# EAGLE library part SAMACSYS_PARTS_39700-0205 (library pcb2)
Fixed Terminal Blocks SPRING TERMINAL BLOCK 5C-VERT GREEN Source: Datasheet <https://componentsearchengine.com//39700-0205.pdf>
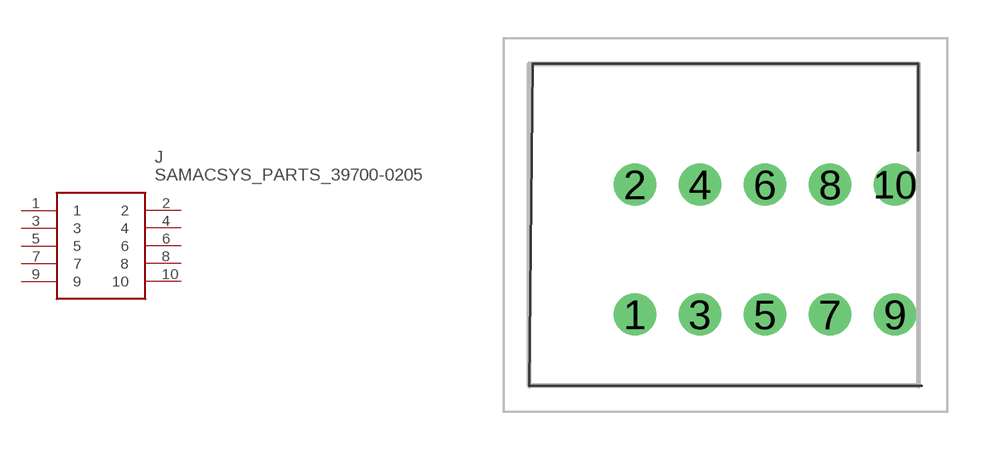
[diagram p0: symbol with the pads of SAMACSYS_PARTS_397000205; footprint SAMACSYS_PARTS_397000205]

Designator prefix J

## SAMACSYS_PARTS_39700-0205 (DESCRIPTION: Fixed Terminal Blocks SPRING TERMINAL BLOCK 5C-VERT GREEN; HEIGHT: 14mm; MANUFACTURER_NAME: Molex; MANUFACTURER_PART_NUMBER: 39700-0205; MOUSER_PART_NUMBER: 538-39700-0205; MOUSER_PRICE-STOCK: https://www.mouser.co.uk/ProductDetail/Molex/39700-0205?qs=iVQMhOBiFE44PbCr6CEU0w%3D%3D)  [SAMACSYS_PARTS_397000205]
1  1
2  2
3  3
4  4
5  5
6  6
7  7
8  8
9  9
10  10

## Footprint SAMACSYS_PARTS_397000205 (pad centres in mm)
39700-0205-4
drill 1.1 pad 1.65: 1 0,0; 2 0,5.08; 3 2.54,0; 4 2.54,5.08; 5 5.08,0; 6 5.08,5.08; 7 7.62,0; 8 7.62,5.08; 9 10.16,0; 10 10.16,5.08